# Altium integrated library WS-DISV 2.54 mm small compact SMD Dip Switch with top tape.IntLib: 11 symbols
Pins are listed as number, name and electrical type; pins without a type are passive.

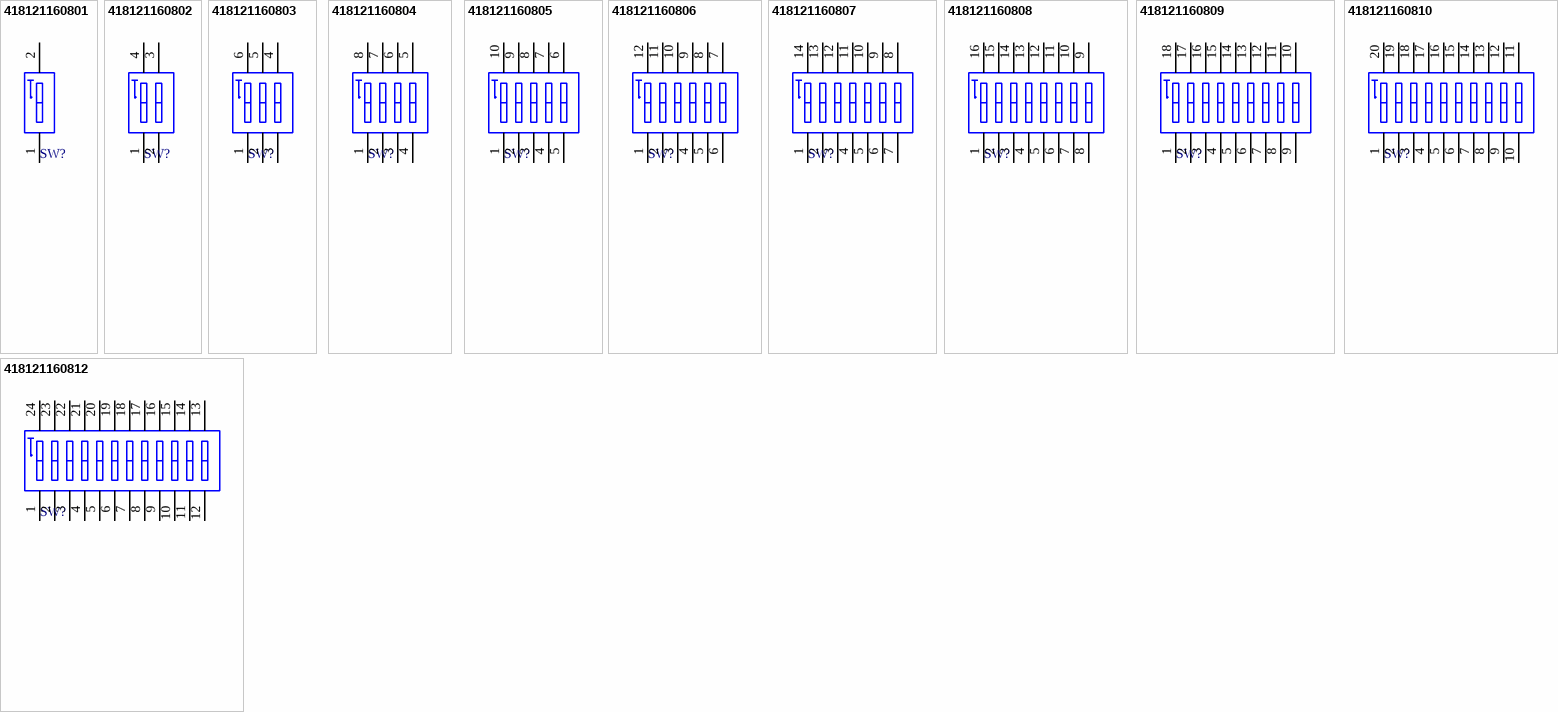
[diagram p0: symbols 418121160801 to 418121160812]

## 418121160801
designator SW?
WS-DISV 2.54 mm small compact SMD Dip Switch with top tape; PartNumber: 418121160801; NoPins: 02; PackageReference: 418121160801; ComponentLink1Description: Manufacturer URL; ComponentLink1URL: http://www.we-online.com; ComponentLink2Description: Datasheet; ComponentLink2URL: http://katalog.we-online.de/em/datasheet/4181211608xx.pdf
footprint 418121160801 (01p, 2.54mm Pitch, Horizontal, IC Type, SMT, flat Actuator, black, with Tape, T&R)
pins: 1, 2

## 418121160802
designator SW?
WS-DISV 2.54 mm small compact SMD Dip Switch with top tape; PartNumber: 418121160802; NoPins: 04; PackageReference: 418121160802; ComponentLink1Description: Manufacturer URL; ComponentLink1URL: http://www.we-online.com; ComponentLink2Description: Datasheet; ComponentLink2URL: http://katalog.we-online.de/em/datasheet/4181211608xx.pdf
footprint 418121160802 (02p, 2.54mm Pitch, Horizontal, IC Type, SMT, flat Actuator, black, with Tape, T&R)
pins: 1, 2, 3, 4

## 418121160803
designator SW?
WS-DISV 2.54 mm small compact SMD Dip Switch with top tape; PartNumber: 418121160803; NoPins: 06; PackageReference: 418121160803; ComponentLink1Description: Manufacturer URL; ComponentLink1URL: http://www.we-online.com; ComponentLink2Description: Datasheet; ComponentLink2URL: http://katalog.we-online.de/em/datasheet/4181211608xx.pdf
footprint 418121160803 (03p, 2.54mm Pitch, Horizontal, IC Type, SMT, flat Actuator, black, with Tape, T&R)
pins: 1, 2, 3, 4, 5, 6

## 418121160804
designator SW?
WS-DISV 2.54 mm small compact SMD Dip Switch with top tape; PartNumber: 418121160804; NoPins: 08; PackageReference: 418121160804; ComponentLink1Description: Manufacturer URL; ComponentLink1URL: http://www.we-online.com; ComponentLink2Description: Datasheet; ComponentLink2URL: http://katalog.we-online.de/em/datasheet/4181211608xx.pdf
footprint 418121160804 (04p, 2.54mm Pitch, Horizontal, IC Type, SMT, flat Actuator, black, with Tape, T&R)
pins: 1, 2, 3, 4, 5, 6, 7, 8

## 418121160805
designator SW?
WS-DISV 2.54 mm small compact SMD Dip Switch with top tape; PartNumber: 418121160805; NoPins: 10; PackageReference: 418121160805; ComponentLink1Description: Manufacturer URL; ComponentLink1URL: http://www.we-online.com; ComponentLink2Description: Datasheet; ComponentLink2URL: http://katalog.we-online.de/em/datasheet/4181211608xx.pdf
footprint 418121160805 (05p, 2.54mm Pitch, Horizontal, IC Type, SMT, flat Actuator, black, with Tape, T&R)
pins: 1, 2, 3, 4, 5, 6, 7, 8, 9, 10

## 418121160806
designator SW?
WS-DISV 2.54 mm small compact SMD Dip Switch with top tape; PartNumber: 418121160806; NoPins: 12; PackageReference: 418121160806; ComponentLink1Description: Manufacturer URL; ComponentLink1URL: http://www.we-online.com; ComponentLink2Description: Datasheet; ComponentLink2URL: http://katalog.we-online.de/em/datasheet/4181211608xx.pdf
footprint 418121160806 (06p, 2.54mm Pitch, Horizontal, IC Type, SMT, flat Actuator, black, with Tape, T&R)
pins: 1, 2, 3, 4, 5, 6, 7, 8, 9, 10, 11, 12

## 418121160807
designator SW?
WS-DISV 2.54 mm small compact SMD Dip Switch with top tape; PartNumber: 418121160807; NoPins: 14; PackageReference: 418121160807; ComponentLink1Description: Manufacturer URL; ComponentLink1URL: http://www.we-online.com; ComponentLink2Description: Datasheet; ComponentLink2URL: http://katalog.we-online.de/em/datasheet/4181211608xx.pdf
footprint 418121160807 (07p, 2.54mm Pitch, Horizontal, IC Type, SMT, flat Actuator, black, with Tape, T&R)
pins: 1, 2, 3, 4, 5, 6, 7, 8, 9, 10, 11, 12, 13, 14

## 418121160808
designator SW?
WS-DISV 2.54 mm small compact SMD Dip Switch with top tape; PartNumber: 418121160808; NoPins: 16; PackageReference: 418121160808; ComponentLink1Description: Manufacturer URL; ComponentLink1URL: http://www.we-online.com; ComponentLink2Description: Datasheet; ComponentLink2URL: http://katalog.we-online.de/em/datasheet/4181211608xx.pdf
footprint 418121160808 (08p, 2.54mm Pitch, Horizontal, IC Type, SMT, flat Actuator, black, with Tape, T&R)
pins: 1, 2, 3, 4, 5, 6, 7, 8, 9, 10, 11, 12, 13, 14, 15, 16

## 418121160809
designator SW?
WS-DISV 2.54 mm small compact SMD Dip Switch with top tape; PartNumber: 418121160809; NoPins: 18; PackageReference: 418121160809; ComponentLink1Description: Manufacturer URL; ComponentLink1URL: http://www.we-online.com; ComponentLink2Description: Datasheet; ComponentLink2URL: http://katalog.we-online.de/em/datasheet/4181211608xx.pdf
footprint 418121160809 (09p, 2.54mm Pitch, Horizontal, IC Type, SMT, flat Actuator, black, with Tape, T&R)
pins: 1, 2, 3, 4, 5, 6, 7, 8, 9, 10, 11, 12, 13, 14, 15, 16, 17, 18

## 418121160810
designator SW?
WS-DISV 2.54 mm small compact SMD Dip Switch with top tape; PartNumber: 418121160810; NoPins: 12; PackageReference: 418121160810; ComponentLink1Description: Manufacturer URL; ComponentLink1URL: http://www.we-online.com; ComponentLink2Description: Datasheet; ComponentLink2URL: http://katalog.we-online.de/em/datasheet/4181211608xx.pdf
footprint 418121160810 (10p, 2.54mm Pitch, Horizontal, IC Type, SMT, flat Actuator, black, with Tape, T&R)
pins: 1, 2, 3, 4, 5, 6, 7, 8, 9, 10, 11, 12, 13, 14, 15, 16, 17, 18, 19, 20

## 418121160812
designator SW?
WS-DISV 2.54 mm small compact SMD Dip Switch with top tape; PartNumber: 418121160812; NoPins: 24; PackageReference: 418121160812; ComponentLink1Description: Manufacturer URL; ComponentLink1URL: http://www.we-online.com; ComponentLink2Description: Datasheet; ComponentLink2URL: http://katalog.we-online.de/em/datasheet/4181211608xx.pdf
footprint 418121160812 (12p, 2.54mm Pitch, Horizontal, IC Type, SMT, flat Actuator, black, with Tape, T&R)
pins: 1, 2, 3, 4, 5, 6, 7, 8, 9, 10, 11, 12, 13, 14, 15, 16, 17, 18, 19, 20, 21, 22, 23, 24